# EAGLE library part ITB02-3.2WD (library debauer_modules)
PIN HEADER
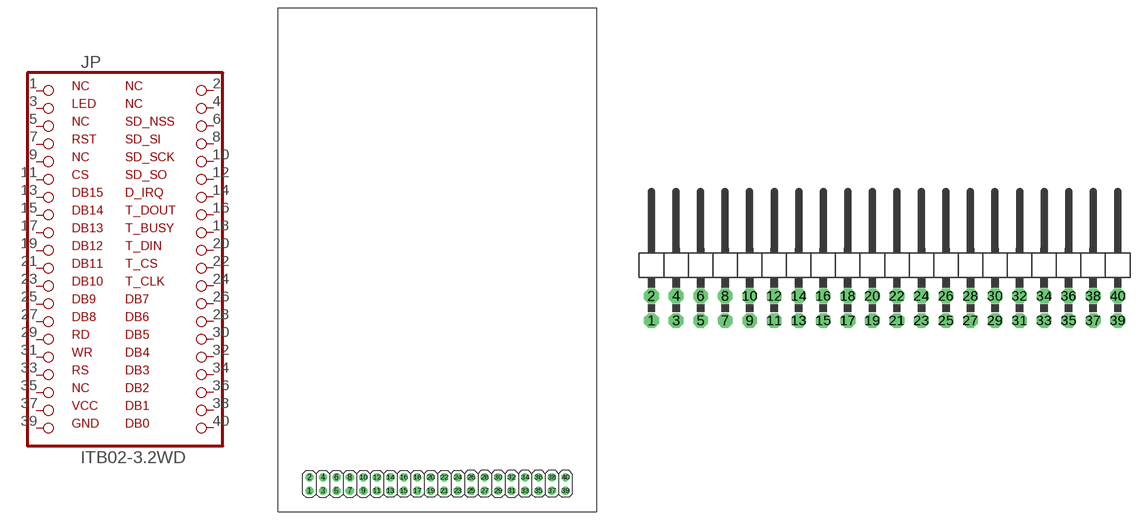
[diagram p13: symbol with the pads of 2X20; footprints 2X20, 2X20/90]

Designator prefix JP

## ITB02-3.2WD  [2X20]
1  1  pas
2  2  pas
3  3  pas
4  4  pas
5  5  pas
6  6  pas
7  7  pas
8  8  pas
9  9  pas
10  10  pas
11  11  pas
12  12  pas
13  13  pas
14  14  pas
15  15  pas
16  16  pas
17  17  pas
18  18  pas
19  19  pas
20  20  pas
21  21  pas
22  22  pas
23  23  pas
24  24  pas
25  25  pas
26  26  pas
27  27  pas
28  28  pas
29  29  pas
30  30  pas
31  31  pas
32  32  pas
33  33  pas
34  34  pas
35  35  pas
36  36  pas
37  37  pas
38  38  pas
39  39  pas
40  40  pas

## ITB02-3.2WD/90  [2X20/90]
Pads as for 2X20

## Footprint 2X20 (pad centres in mm)
PIN HEADER
drill 1.016 octagon: 1 5.87,3.93; 2 5.87,6.47; 3 8.41,3.93; 4 8.41,6.47; 5 10.95,3.93; 6 10.95,6.47; 7 13.49,3.93; 8 13.49,6.47; 9 16.03,3.93; 10 16.03,6.47; 11 18.57,3.93; 12 18.57,6.47; 13 21.11,3.93; 14 21.11,6.47; 15 23.65,3.93; 16 23.65,6.47; 17 26.19,3.93; 18 26.19,6.47; 19 28.73,3.93; 20 28.73,6.47; 21 31.27,3.93; 22 31.27,6.47; 23 33.81,3.93; 24 33.81,6.47; 25 36.35,3.93; 26 36.35,6.47; 27 38.89,3.93; 28 38.89,6.47; 29 41.43,3.93; 30 41.43,6.47; 31 43.97,3.93; 32 43.97,6.47; 33 46.51,3.93; 34 46.51,6.47; 35 49.05,3.93; 36 49.05,6.47; 37 51.59,3.93; 38 51.59,6.47; 39 54.13,3.93; 40 54.13,6.47

## Footprint 2X20/90 (pad centres in mm)
PIN HEADER
drill 1.016 octagon: 1 -24.13,-6.35; 2 -24.13,-3.81; 3 -21.59,-6.35; 4 -21.59,-3.81; 5 -19.05,-6.35; 6 -19.05,-3.81; 7 -16.51,-6.35; 8 -16.51,-3.81; 9 -13.97,-6.35; 10 -13.97,-3.81; 11 -11.43,-6.35; 12 -11.43,-3.81; 13 -8.89,-6.35; 14 -8.89,-3.81; 15 -6.35,-6.35; 16 -6.35,-3.81; 17 -3.81,-6.35; 18 -3.81,-3.81; 19 -1.27,-6.35; 20 -1.27,-3.81; 21 1.27,-6.35; 22 1.27,-3.81; 23 3.81,-6.35; 24 3.81,-3.81; 25 6.35,-6.35; 26 6.35,-3.81; 27 8.89,-6.35; 28 8.89,-3.81; 29 11.43,-6.35; 30 11.43,-3.81; 31 13.97,-6.35; 32 13.97,-3.81; 33 16.51,-6.35; 34 16.51,-3.81; 35 19.05,-6.35; 36 19.05,-3.81; 37 21.59,-6.35; 38 21.59,-3.81; 39 24.13,-6.35; 40 24.13,-3.81